# Altium footprint library DPAK.PCBLIB: 1 footprints
Each footprint in its own frame and in the unit in brackets; x right, y up, seen from the top. Pads: shape width x height; smd on the part's side, far side on the other; paste and mask are expansions set on the pad; w line width, h text height; cw(c..) or ccw(c..) is an arc to the next point about the centre after c.
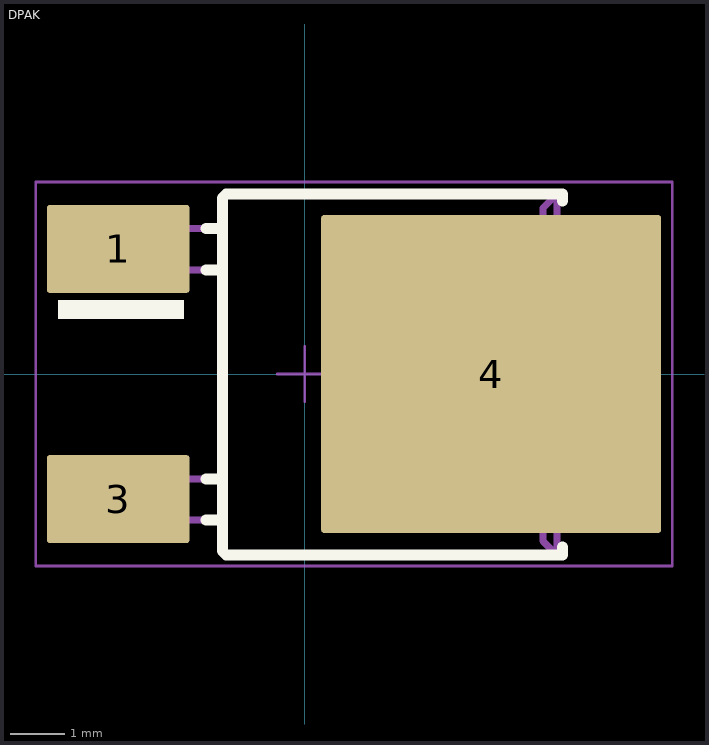
[diagram p0: the footprint, top view; thin cyan lines are the x and y axes]

## DPAK [mm] "D-PAK, 3-Pads, Body 6.22x6.73mm (max), TO-252AA using nominal STEP model"
height 2.39
pads (3):
  rrect6% 2.6x1.6 smd: 1(-3.4,2.28) 3(-3.4,-2.28)
  rrect2% 6.2x5.8 smd paste-2.9: 4(3.4,0)
Top Overlay:
  rectangle: -4.5,1 -2.2,1.35
  rectangle: -4.5,1 -2.2,1.35
  lines w0.2: -1.8,1.9 -1.5,1.9 ; -1.8,2.65 -1.5,2.65 ; 4.7,-3.3 -1.429,-3.3 -1.5,-3.229 -1.5,-3.157 -1.5,-2.665 ; 4.7,-3.28 4.7,-3.15 ; 4.7,3.15 4.7,3.28 -1.429,3.28 -1.5,3.209 -1.5,3.137 -1.5,-1.915 ; -1.8,-2.665 -1.5,-2.665 ; -1.8,-2.665 -1.5,-2.665 ; -1.8,-2.665 -1.5,-2.665 ; -1.8,-1.915 -1.5,-1.915 ; -1.8,-1.915 -1.5,-1.915 ; -1.8,-1.915 -1.5,-1.915 ; -1.5,-2.665 -1.5,-1.915 ; -1.5,-2.665 -1.5,-1.915 ; -1.5,-2.665 -1.5,-1.915
Top Paste:
  rectangle: 0.4,-2.8 1.675,-1.625
  rectangle: 1.975,-2.8 3.25,-1.625
  rectangle: 3.55,-2.8 4.825,-1.625
  rectangle: 5.125,-2.8 6.4,-1.625
  rectangle: 5.125,-1.325 6.4,-0.15
  rectangle: 3.55,-1.325 4.825,-0.15
  rectangle: 1.975,-1.325 3.25,-0.15
  rectangle: 0.4,-1.325 1.675,-0.15
  rectangle: 5.125,0.15 6.4,1.325
  rectangle: 3.55,0.15 4.825,1.325
  rectangle: 1.975,0.15 3.25,1.325
  rectangle: 0.4,0.15 1.675,1.325
  rectangle: 5.125,1.625 6.4,2.8
  rectangle: 3.55,1.625 4.825,2.8
  rectangle: 1.975,1.625 3.25,2.8
  rectangle: 0.4,1.625 1.675,2.8
Top Assembly:
  lines w0.127: -1.5,1.9 -2.757,1.9 -3.157,1.9 ; -1.5,2.65 -2.757,2.65 -3.157,2.65 ; -3.899,-2.665 -3.899,-1.915 ; -3.899,-2.665 -3.357,-2.665 ; -3.899,-2.665 -3.899,-1.915 ; -3.899,-2.665 -3.357,-2.665 ; -3.899,-2.665 -3.899,-1.915 ; -3.899,-2.665 -3.357,-2.665 ; -3.899,-1.915 -3.357,-1.915 ; -3.899,-1.915 -3.357,-1.915 ; -3.899,-1.915 -3.357,-1.915 ; -3.357,-2.665 -3.157,-2.665 ; -3.357,-2.665 -3.157,-2.665 ; -3.357,-2.665 -3.157,-2.665 ; -3.357,-1.915 -3.157,-1.915 ; -3.357,-1.915 -3.157,-1.915 ; -3.357,-1.915 -3.157,-1.915 ; -3.157,-2.665 -2.757,-2.665 ; -3.157,-2.665 -3.157,-1.915 ; -3.157,-2.665 -2.757,-2.665 ; -3.157,-2.665 -3.157,-1.915 ; -3.157,-2.665 -2.757,-2.665 ; -3.157,-2.665 -3.157,-1.915 ; -3.157,-1.915 -2.757,-1.915 ; -3.157,-1.915 -2.757,-1.915 ; -3.157,-1.915 -2.757,-1.915 ; -3.157,1.9 -3.157,2.65 ; -3.157,1.9 -3.357,1.9 -3.899,1.9 -3.899,2.65 -3.357,2.65 -3.157,2.65 ; -2.757,-2.665 -1.5,-2.665 ; -2.757,-2.665 -1.5,-2.665 ; -2.757,-2.665 -1.5,-2.665 ; -2.757,-1.915 -1.5,-1.915 ; -2.757,-1.915 -1.5,-1.915 ; -2.757,-1.915 -1.5,-1.915 ; -1.5,-2.665 -1.5,-3.157 -1.5,-3.229 -1.429,-3.3 4.6,-3.3 ; -1.5,-2.665 -1.5,-1.915 ; -1.5,-2.665 -1.5,-1.915 ; -1.5,-2.665 -1.5,-1.915 ; -1.5,-1.915 -1.5,3.137 -1.5,3.209 -1.429,3.28 4.6,3.28 ; 4.6,-3.3 4.348,-3.048 4.348,3.028 4.6,3.28 ; 4.6,-3.3 4.6,-2.69 5.8,-2.69 5.8,-2.01 5.308,-2.01 5.308,1.99 5.8,1.99 5.8,2.67 4.6,2.67 4.6,3.28
Top Courtyard:
  lines w0.05: -4.9,-3.5 -4.9,3.5 6.7,3.5 6.7,-3.5 -4.9,-3.5
Top Designator:
  text ".Designator" at -0.374,-0.508 h1.02
Top Component Center:
  lines w0.05: -0.5,0 0.5,0 ; 0,-0.5 0,0.5
3D body "td03b.stp": height 2.48, standoff 0.01, extent -3.856,-3.29 5.843,3.29